# Altium footprint library ECS-2520S33-250-EN-TR.PcbLib: 2 footprints
Each footprint in its own frame and in the unit in brackets; x right, y up, seen from the top. Pads: shape width x height; smd on the part's side, far side on the other; paste and mask are expansions set on the pad; w line width, h text height; cw(c..) or ccw(c..) is an arc to the next point about the centre after c.
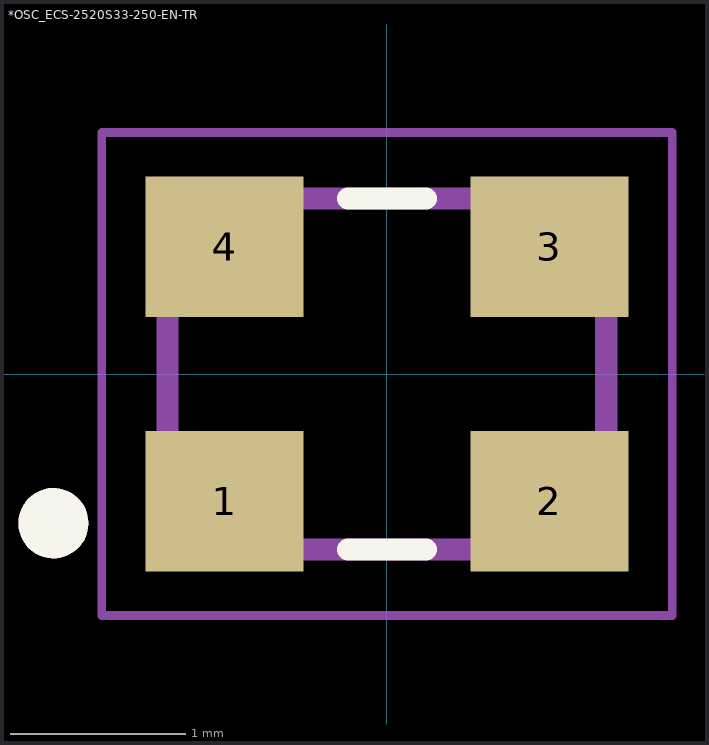
[diagram p0: the footprints below, top view; thin cyan lines are the x and y axes]

## *OSC_ECS-2520S33-250-EN-TR [mm]
pads (4):
  rect 0.9x0.8 smd: 1(-0.925,-0.725) 2(0.925,-0.725) 3(0.925,0.725) 4(-0.925,0.725)
Top Overlay:
  circle w0.2: c-1.9,-0.85 r0.1
  lines w0.127: -0.221,-1 0.221,-1 ; -0.221,1 0.221,1
Mechanical 4:
  circle w0.2: c-1.9,-0.85 r0.1
  circle w0.2: c-1.9,-0.85 r0.1
  lines w0.127: -1.25,-1 -1.25,1 ; -1.25,-1 1.25,-1 ; -1.25,-1 -1.25,1 ; -1.25,-1 1.25,-1 ; -1.25,1 1.25,1 ; -1.25,1 1.25,1 ; 1.25,-1 1.25,1 ; 1.25,-1 1.25,1
Mechanical 16:
  lines w0.05: -1.625,-1.375 -1.625,1.375 1.625,1.375 1.625,-1.375 -1.625,-1.375

## PCBComponent_1 [mm]